# Altium integrated library Linear Technology Power Management LDO Linear Regulators.IntLib: 2339 symbols (part 69 of 131)
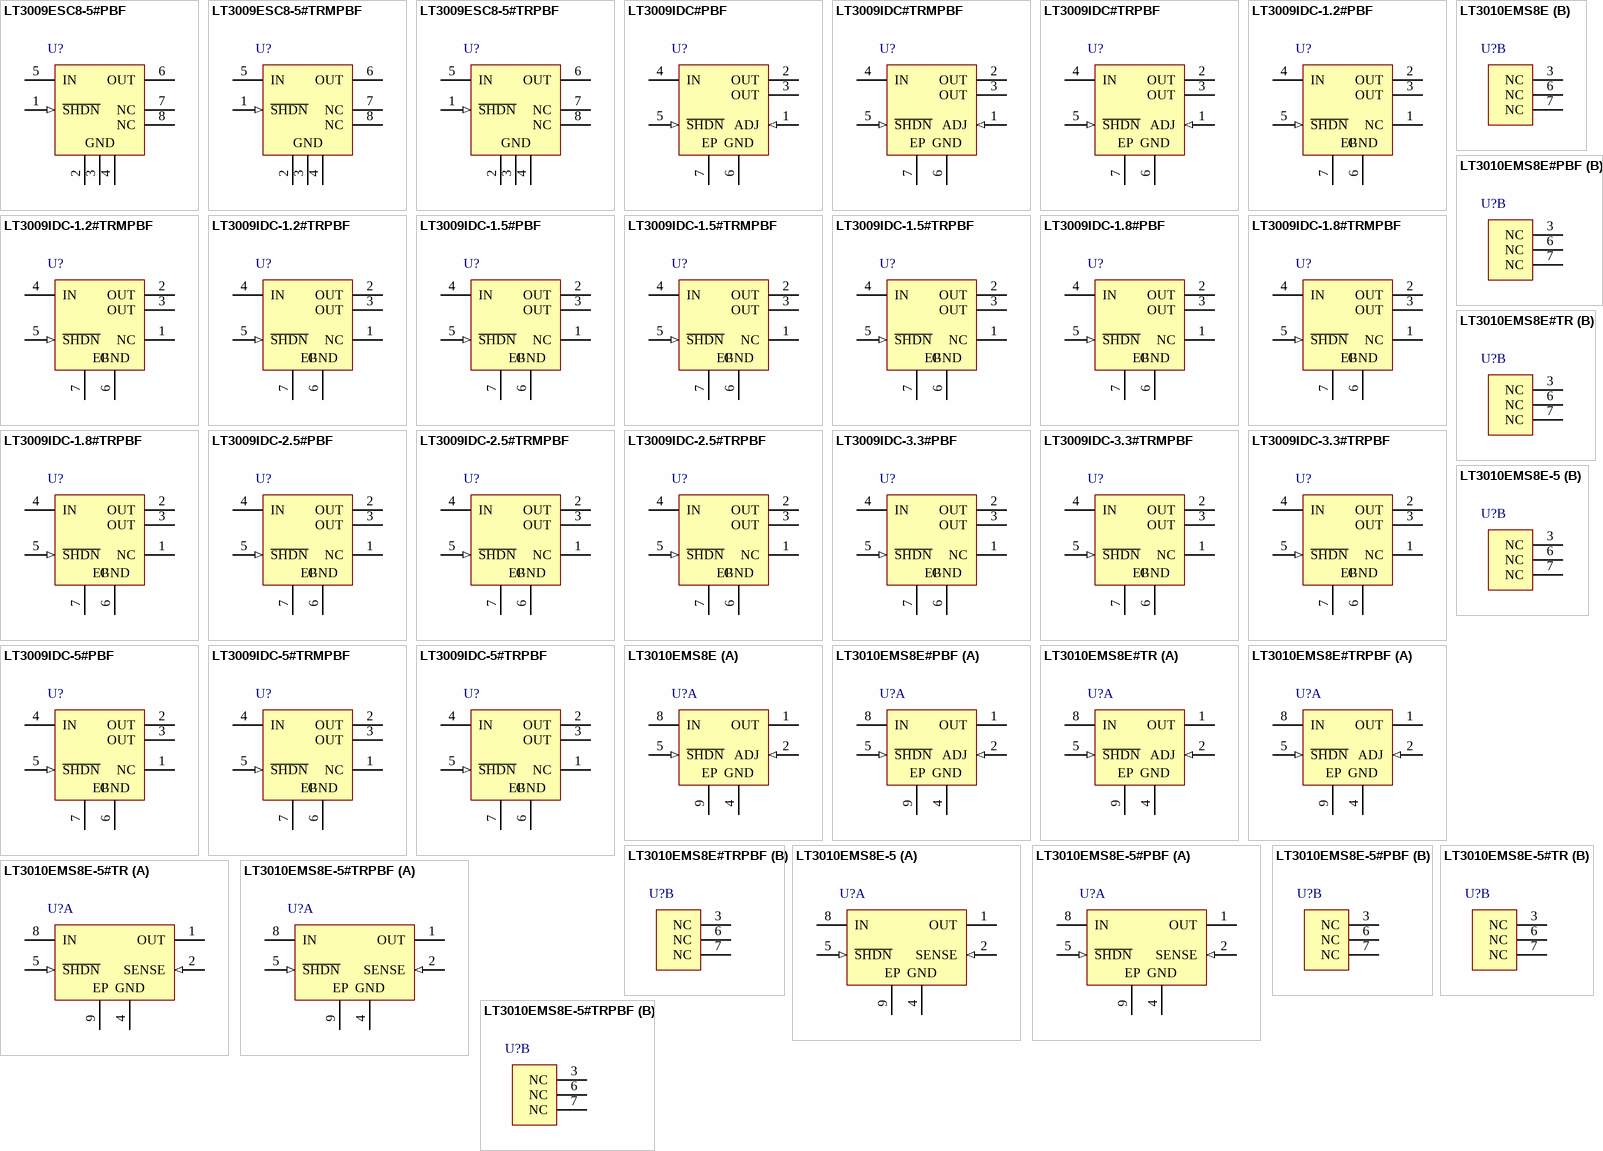
[diagram p137: symbols LT3009ESC8-5#PBF to LT3010EMS8E-5#TRPBF]

## LT3009IDC-1.8#TRMPBF
designator U?
3 uA IQ, 20 mA Low Dropout Linear Regulator, 1.6 to 20 V Vin, 1.8 V Vout, 6-pin SON (DC6-6), -40 to 125 degC, Pb-Free, Mini Tape and Reel; Manufacturer: Linear Technology; PartNumber: LT3009IDC-1.8#TRMPBF; Discrete Pass Element: no; Dropout Voltage(V): 0.28; Iout(mA): 20; Isupply(mA): 0.003; Noise(uV): 150; Number of Outputs: 1; Output Voltage: 1.8 V; PSRR(dB): 66; Vin Min(V): 1.6; DatasheetVersion: Rev. D; PackageVersion: Rev. B, 06/2010; PackageReference: DC6-6; PackageDescription: 6-Pin Plastic DFN, Body 2 x 2 mm, Pitch 0.5 mm; Supplier 1: Digi-Key; Supplier Part Number 1: LT3009IDC-1.8#TRMPBF-ND; Packing: Mini Tape and Reel; RoHS: TRUE; Shutdown Current(uA): 1; Vin Max(V): 20; Mounting Technology: Surface Mount; Code_JEDEC: MO-229; ComponentLink1Description: Manufacturer URL; ComponentLink1URL: http://www.linear.com/; ComponentLink2Description: Datasheet; ComponentLink2URL: http://cds.linear.com/docs/en/datasheet/3009fd.pdf; ComponentLink3Description: Package Specification; ComponentLink3URL: http://cds.linear.com/docs/en/packaging/DFN_6_05-08-1703.pdf
footprint LT-DC6-6_V (SON, 6-Leads, Body 2x2mm, Pitch 0.5mm, Thermal Pad 1.42x0.61mm)
pins: 1 NC "No Connect. For the adjustable voltage version, Pin 8 is an NC pin in the SC70 package. For the fi xed voltage versions, Pin 7 and Pin 8 are NC pins in the SC70 package, and Pin 1 is an NC pin in the DFN package. NC pins are (See Datasheet)", 2 OUT (power) "Output. This pin supplies power to the load. Use a minimum output capacitor of 1uF to prevent oscillations. Large load transient applications require larger output capacitors to limit peak voltage transients. See the (See Datasheet)", 3 OUT (power) "Output. This pin supplies power to the load. Use a minimum output capacitor of 1uF to prevent oscillations. Large load transient applications require larger output capacitors to limit peak voltage transients. See the (See Datasheet)", 4 IN (power) "Input. The IN pin supplies power to the device. The LT3009 requires a bypass capacitor at IN if the device is more than six inches away from the main input fi lter capacitor. In general, the output impedance of a battery (See Datasheet)", 5 ~{SHDN} (in) "Shutdown. Pulling the S\H\D\N\ pin low puts the LT3009 into a low power state and turns the output off. If unused, tie the S\H\D\N\ pin to VIN. The LT3009 does not function if the S\H\D\N\ pin is not connected. The S\H\D\N\ (See Datasheet)", 6 GND (power) "Ground. Connect the bottom of the resistor divider that sets output voltage directly to GND for the best regulation.", 7 EP (power) "Ground. The Exposed Pad (backside) of the DFN package is an electrical connection to GND. To ensure optimum performance, solder Pin 7 to the PCB and tie directly to Pin 6."

## LT3009IDC-1.8#TRPBF
designator U?
3 uA IQ, 20 mA Low Dropout Linear Regulator, 1.6 to 20 V Vin, 1.8 V Vout, 6-pin SON (DC6-6), -40 to 125 degC, Pb-Free, Tape and Reel; Manufacturer: Linear Technology; PartNumber: LT3009IDC-1.8#TRPBF; Discrete Pass Element: no; Dropout Voltage(V): 0.28; Iout(mA): 20; Isupply(mA): 0.003; Noise(uV): 150; Number of Outputs: 1; Output Voltage: 1.8 V; PSRR(dB): 66; Vin Min(V): 1.6; DatasheetVersion: Rev. D; PackageVersion: Rev. B, 06/2010; PackageReference: DC6-6; PackageDescription: 6-Pin Plastic DFN, Body 2 x 2 mm, Pitch 0.5 mm; Supplier 1: Digi-Key; Supplier Part Number 1: LT3009IDC-1.8#TRPBF-ND; Supplier 2: Newark; Supplier Part Number 2: 07P8398; Packing: Tape and Reel; RoHS: TRUE; Shutdown Current(uA): 1; Vin Max(V): 20; Mounting Technology: Surface Mount; Code_JEDEC: MO-229; ComponentLink1Description: Manufacturer URL; ComponentLink1URL: http://www.linear.com/; ComponentLink2Description: Datasheet; ComponentLink2URL: http://cds.linear.com/docs/en/datasheet/3009fd.pdf; ComponentLink3Description: Package Specification; ComponentLink3URL: http://cds.linear.com/docs/en/packaging/DFN_6_05-08-1703.pdf
footprint LT-DC6-6_V (SON, 6-Leads, Body 2x2mm, Pitch 0.5mm, Thermal Pad 1.42x0.61mm)
pins: 1 NC "No Connect. For the adjustable voltage version, Pin 8 is an NC pin in the SC70 package. For the fi xed voltage versions, Pin 7 and Pin 8 are NC pins in the SC70 package, and Pin 1 is an NC pin in the DFN package. NC pins are (See Datasheet)", 2 OUT (power) "Output. This pin supplies power to the load. Use a minimum output capacitor of 1uF to prevent oscillations. Large load transient applications require larger output capacitors to limit peak voltage transients. See the (See Datasheet)", 3 OUT (power) "Output. This pin supplies power to the load. Use a minimum output capacitor of 1uF to prevent oscillations. Large load transient applications require larger output capacitors to limit peak voltage transients. See the (See Datasheet)", 4 IN (power) "Input. The IN pin supplies power to the device. The LT3009 requires a bypass capacitor at IN if the device is more than six inches away from the main input fi lter capacitor. In general, the output impedance of a battery (See Datasheet)", 5 ~{SHDN} (in) "Shutdown. Pulling the S\H\D\N\ pin low puts the LT3009 into a low power state and turns the output off. If unused, tie the S\H\D\N\ pin to VIN. The LT3009 does not function if the S\H\D\N\ pin is not connected. The S\H\D\N\ (See Datasheet)", 6 GND (power) "Ground. Connect the bottom of the resistor divider that sets output voltage directly to GND for the best regulation.", 7 EP (power) "Ground. The Exposed Pad (backside) of the DFN package is an electrical connection to GND. To ensure optimum performance, solder Pin 7 to the PCB and tie directly to Pin 6."

## LT3009IDC-2.5#PBF
designator U?
3 uA IQ, 20 mA Low Dropout Linear Regulator, 1.6 to 20 V Vin, 2.5 V Vout, 6-pin SON (DC6-6), -40 to 125 degC, Pb-Free; Manufacturer: Linear Technology; PartNumber: LT3009IDC-2.5#PBF; Discrete Pass Element: no; Dropout Voltage(V): 0.28; Iout(mA): 20; Isupply(mA): 0.003; Noise(uV): 150; Number of Outputs: 1; Output Voltage: 2.5 V; PSRR(dB): 63; Vin Min(V): 1.6; DatasheetVersion: Rev. D; PackageVersion: Rev. B, 06/2010; PackageReference: DC6-6; PackageDescription: 6-Pin Plastic DFN, Body 2 x 2 mm, Pitch 0.5 mm; Supplier 1: Newark; Supplier Part Number 1: 78T3824; RoHS: TRUE; Shutdown Current(uA): 1; Vin Max(V): 20; Mounting Technology: Surface Mount; Code_JEDEC: MO-229; ComponentLink1Description: Manufacturer URL; ComponentLink1URL: http://www.linear.com/; ComponentLink2Description: Datasheet; ComponentLink2URL: http://cds.linear.com/docs/en/datasheet/3009fd.pdf; ComponentLink3Description: Package Specification; ComponentLink3URL: http://cds.linear.com/docs/en/packaging/DFN_6_05-08-1703.pdf
footprint LT-DC6-6_V (SON, 6-Leads, Body 2x2mm, Pitch 0.5mm, Thermal Pad 1.42x0.61mm)
pins: 1 NC "No Connect. For the adjustable voltage version, Pin 8 is an NC pin in the SC70 package. For the fi xed voltage versions, Pin 7 and Pin 8 are NC pins in the SC70 package, and Pin 1 is an NC pin in the DFN package. NC pins are (See Datasheet)", 2 OUT (power) "Output. This pin supplies power to the load. Use a minimum output capacitor of 1uF to prevent oscillations. Large load transient applications require larger output capacitors to limit peak voltage transients. See the (See Datasheet)", 3 OUT (power) "Output. This pin supplies power to the load. Use a minimum output capacitor of 1uF to prevent oscillations. Large load transient applications require larger output capacitors to limit peak voltage transients. See the (See Datasheet)", 4 IN (power) "Input. The IN pin supplies power to the device. The LT3009 requires a bypass capacitor at IN if the device is more than six inches away from the main input fi lter capacitor. In general, the output impedance of a battery (See Datasheet)", 5 ~{SHDN} (in) "Shutdown. Pulling the S\H\D\N\ pin low puts the LT3009 into a low power state and turns the output off. If unused, tie the S\H\D\N\ pin to VIN. The LT3009 does not function if the S\H\D\N\ pin is not connected. The S\H\D\N\ (See Datasheet)", 6 GND (power) "Ground. Connect the bottom of the resistor divider that sets output voltage directly to GND for the best regulation.", 7 EP (power) "Ground. The Exposed Pad (backside) of the DFN package is an electrical connection to GND. To ensure optimum performance, solder Pin 7 to the PCB and tie directly to Pin 6."

## LT3009IDC-2.5#TRMPBF
designator U?
3 uA IQ, 20 mA Low Dropout Linear Regulator, 1.6 to 20 V Vin, 2.5 V Vout, 6-pin SON (DC6-6), -40 to 125 degC, Pb-Free, Mini Tape and Reel; Manufacturer: Linear Technology; PartNumber: LT3009IDC-2.5#TRMPBF; Discrete Pass Element: no; Dropout Voltage(V): 0.28; Iout(mA): 20; Isupply(mA): 0.003; Noise(uV): 150; Number of Outputs: 1; Output Voltage: 2.5 V; PSRR(dB): 63; Vin Min(V): 1.6; DatasheetVersion: Rev. D; PackageVersion: Rev. B, 06/2010; PackageReference: DC6-6; PackageDescription: 6-Pin Plastic DFN, Body 2 x 2 mm, Pitch 0.5 mm; Supplier 1: Digi-Key; Supplier Part Number 1: LT3009IDC-2.5#TRMPBF-ND; Packing: Mini Tape and Reel; RoHS: TRUE; Shutdown Current(uA): 1; Vin Max(V): 20; Mounting Technology: Surface Mount; Code_JEDEC: MO-229; ComponentLink1Description: Manufacturer URL; ComponentLink1URL: http://www.linear.com/; ComponentLink2Description: Datasheet; ComponentLink2URL: http://cds.linear.com/docs/en/datasheet/3009fd.pdf; ComponentLink3Description: Package Specification; ComponentLink3URL: http://cds.linear.com/docs/en/packaging/DFN_6_05-08-1703.pdf
footprint LT-DC6-6_V (SON, 6-Leads, Body 2x2mm, Pitch 0.5mm, Thermal Pad 1.42x0.61mm)
pins: 1 NC "No Connect. For the adjustable voltage version, Pin 8 is an NC pin in the SC70 package. For the fi xed voltage versions, Pin 7 and Pin 8 are NC pins in the SC70 package, and Pin 1 is an NC pin in the DFN package. NC pins are (See Datasheet)", 2 OUT (power) "Output. This pin supplies power to the load. Use a minimum output capacitor of 1uF to prevent oscillations. Large load transient applications require larger output capacitors to limit peak voltage transients. See the (See Datasheet)", 3 OUT (power) "Output. This pin supplies power to the load. Use a minimum output capacitor of 1uF to prevent oscillations. Large load transient applications require larger output capacitors to limit peak voltage transients. See the (See Datasheet)", 4 IN (power) "Input. The IN pin supplies power to the device. The LT3009 requires a bypass capacitor at IN if the device is more than six inches away from the main input fi lter capacitor. In general, the output impedance of a battery (See Datasheet)", 5 ~{SHDN} (in) "Shutdown. Pulling the S\H\D\N\ pin low puts the LT3009 into a low power state and turns the output off. If unused, tie the S\H\D\N\ pin to VIN. The LT3009 does not function if the S\H\D\N\ pin is not connected. The S\H\D\N\ (See Datasheet)", 6 GND (power) "Ground. Connect the bottom of the resistor divider that sets output voltage directly to GND for the best regulation.", 7 EP (power) "Ground. The Exposed Pad (backside) of the DFN package is an electrical connection to GND. To ensure optimum performance, solder Pin 7 to the PCB and tie directly to Pin 6."

## LT3009IDC-2.5#TRPBF
designator U?
3 uA IQ, 20 mA Low Dropout Linear Regulator, 1.6 to 20 V Vin, 2.5 V Vout, 6-pin SON (DC6-6), -40 to 125 degC, Pb-Free, Tape and Reel; Manufacturer: Linear Technology; PartNumber: LT3009IDC-2.5#TRPBF; Discrete Pass Element: no; Dropout Voltage(V): 0.28; Iout(mA): 20; Isupply(mA): 0.003; Noise(uV): 150; Number of Outputs: 1; Output Voltage: 2.5 V; PSRR(dB): 63; Vin Min(V): 1.6; DatasheetVersion: Rev. D; PackageVersion: Rev. B, 06/2010; PackageReference: DC6-6; PackageDescription: 6-Pin Plastic DFN, Body 2 x 2 mm, Pitch 0.5 mm; Supplier 1: Digi-Key; Supplier Part Number 1: LT3009IDC-2.5#TRPBF-ND; Packing: Tape and Reel; RoHS: TRUE; Shutdown Current(uA): 1; Vin Max(V): 20; Mounting Technology: Surface Mount; Code_JEDEC: MO-229; ComponentLink1Description: Manufacturer URL; ComponentLink1URL: http://www.linear.com/; ComponentLink2Description: Datasheet; ComponentLink2URL: http://cds.linear.com/docs/en/datasheet/3009fd.pdf; ComponentLink3Description: Package Specification; ComponentLink3URL: http://cds.linear.com/docs/en/packaging/DFN_6_05-08-1703.pdf
footprint LT-DC6-6_V (SON, 6-Leads, Body 2x2mm, Pitch 0.5mm, Thermal Pad 1.42x0.61mm)
pins: 1 NC "No Connect. For the adjustable voltage version, Pin 8 is an NC pin in the SC70 package. For the fi xed voltage versions, Pin 7 and Pin 8 are NC pins in the SC70 package, and Pin 1 is an NC pin in the DFN package. NC pins are (See Datasheet)", 2 OUT (power) "Output. This pin supplies power to the load. Use a minimum output capacitor of 1uF to prevent oscillations. Large load transient applications require larger output capacitors to limit peak voltage transients. See the (See Datasheet)", 3 OUT (power) "Output. This pin supplies power to the load. Use a minimum output capacitor of 1uF to prevent oscillations. Large load transient applications require larger output capacitors to limit peak voltage transients. See the (See Datasheet)", 4 IN (power) "Input. The IN pin supplies power to the device. The LT3009 requires a bypass capacitor at IN if the device is more than six inches away from the main input fi lter capacitor. In general, the output impedance of a battery (See Datasheet)", 5 ~{SHDN} (in) "Shutdown. Pulling the S\H\D\N\ pin low puts the LT3009 into a low power state and turns the output off. If unused, tie the S\H\D\N\ pin to VIN. The LT3009 does not function if the S\H\D\N\ pin is not connected. The S\H\D\N\ (See Datasheet)", 6 GND (power) "Ground. Connect the bottom of the resistor divider that sets output voltage directly to GND for the best regulation.", 7 EP (power) "Ground. The Exposed Pad (backside) of the DFN package is an electrical connection to GND. To ensure optimum performance, solder Pin 7 to the PCB and tie directly to Pin 6."

## LT3009IDC-3.3#PBF
designator U?
3 uA IQ, 20 mA Low Dropout Linear Regulator, 1.6 to 20 V Vin, 3.3 V Vout, 6-pin SON (DC6-6), -40 to 125 degC, Pb-Free; Manufacturer: Linear Technology; PartNumber: LT3009IDC-3.3#PBF; Discrete Pass Element: no; Dropout Voltage(V): 0.28; Iout(mA): 20; Isupply(mA): 0.003; Noise(uV): 150; Number of Outputs: 1; Output Voltage: 3.3 V; PSRR(dB): 61; Vin Min(V): 1.6; DatasheetVersion: Rev. D; PackageVersion: Rev. B, 06/2010; PackageReference: DC6-6; PackageDescription: 6-Pin Plastic DFN, Body 2 x 2 mm, Pitch 0.5 mm; Supplier 1: Newark; Supplier Part Number 1: 78T3825; RoHS: TRUE; Shutdown Current(uA): 1; Vin Max(V): 20; Mounting Technology: Surface Mount; Code_JEDEC: MO-229; ComponentLink1Description: Manufacturer URL; ComponentLink1URL: http://www.linear.com/; ComponentLink2Description: Datasheet; ComponentLink2URL: http://cds.linear.com/docs/en/datasheet/3009fd.pdf; ComponentLink3Description: Package Specification; ComponentLink3URL: http://cds.linear.com/docs/en/packaging/DFN_6_05-08-1703.pdf
footprint LT-DC6-6_V (SON, 6-Leads, Body 2x2mm, Pitch 0.5mm, Thermal Pad 1.42x0.61mm)
pins: 1 NC "No Connect. For the adjustable voltage version, Pin 8 is an NC pin in the SC70 package. For the fi xed voltage versions, Pin 7 and Pin 8 are NC pins in the SC70 package, and Pin 1 is an NC pin in the DFN package. NC pins are (See Datasheet)", 2 OUT (power) "Output. This pin supplies power to the load. Use a minimum output capacitor of 1uF to prevent oscillations. Large load transient applications require larger output capacitors to limit peak voltage transients. See the (See Datasheet)", 3 OUT (power) "Output. This pin supplies power to the load. Use a minimum output capacitor of 1uF to prevent oscillations. Large load transient applications require larger output capacitors to limit peak voltage transients. See the (See Datasheet)", 4 IN (power) "Input. The IN pin supplies power to the device. The LT3009 requires a bypass capacitor at IN if the device is more than six inches away from the main input fi lter capacitor. In general, the output impedance of a battery (See Datasheet)", 5 ~{SHDN} (in) "Shutdown. Pulling the S\H\D\N\ pin low puts the LT3009 into a low power state and turns the output off. If unused, tie the S\H\D\N\ pin to VIN. The LT3009 does not function if the S\H\D\N\ pin is not connected. The S\H\D\N\ (See Datasheet)", 6 GND (power) "Ground. Connect the bottom of the resistor divider that sets output voltage directly to GND for the best regulation.", 7 EP (power) "Ground. The Exposed Pad (backside) of the DFN package is an electrical connection to GND. To ensure optimum performance, solder Pin 7 to the PCB and tie directly to Pin 6."

## LT3009IDC-3.3#TRMPBF
designator U?
3 uA IQ, 20 mA Low Dropout Linear Regulator, 1.6 to 20 V Vin, 3.3 V Vout, 6-pin SON (DC6-6), -40 to 125 degC, Pb-Free, Mini Tape and Reel; Manufacturer: Linear Technology; PartNumber: LT3009IDC-3.3#TRMPBF; Discrete Pass Element: no; Dropout Voltage(V): 0.28; Iout(mA): 20; Isupply(mA): 0.003; Noise(uV): 150; Number of Outputs: 1; Output Voltage: 3.3 V; PSRR(dB): 61; Vin Min(V): 1.6; DatasheetVersion: Rev. D; PackageVersion: Rev. B, 06/2010; PackageReference: DC6-6; PackageDescription: 6-Pin Plastic DFN, Body 2 x 2 mm, Pitch 0.5 mm; Supplier 1: Digi-Key; Supplier Part Number 1: LT3009IDC-3.3#TRMPBF-ND; Packing: Mini Tape and Reel; RoHS: TRUE; Shutdown Current(uA): 1; Vin Max(V): 20; Mounting Technology: Surface Mount; Code_JEDEC: MO-229; ComponentLink1Description: Manufacturer URL; ComponentLink1URL: http://www.linear.com/; ComponentLink2Description: Datasheet; ComponentLink2URL: http://cds.linear.com/docs/en/datasheet/3009fd.pdf; ComponentLink3Description: Package Specification; ComponentLink3URL: http://cds.linear.com/docs/en/packaging/DFN_6_05-08-1703.pdf
footprint LT-DC6-6_V (SON, 6-Leads, Body 2x2mm, Pitch 0.5mm, Thermal Pad 1.42x0.61mm)
pins: 1 NC "No Connect. For the adjustable voltage version, Pin 8 is an NC pin in the SC70 package. For the fi xed voltage versions, Pin 7 and Pin 8 are NC pins in the SC70 package, and Pin 1 is an NC pin in the DFN package. NC pins are (See Datasheet)", 2 OUT (power) "Output. This pin supplies power to the load. Use a minimum output capacitor of 1uF to prevent oscillations. Large load transient applications require larger output capacitors to limit peak voltage transients. See the (See Datasheet)", 3 OUT (power) "Output. This pin supplies power to the load. Use a minimum output capacitor of 1uF to prevent oscillations. Large load transient applications require larger output capacitors to limit peak voltage transients. See the (See Datasheet)", 4 IN (power) "Input. The IN pin supplies power to the device. The LT3009 requires a bypass capacitor at IN if the device is more than six inches away from the main input fi lter capacitor. In general, the output impedance of a battery (See Datasheet)", 5 ~{SHDN} (in) "Shutdown. Pulling the S\H\D\N\ pin low puts the LT3009 into a low power state and turns the output off. If unused, tie the S\H\D\N\ pin to VIN. The LT3009 does not function if the S\H\D\N\ pin is not connected. The S\H\D\N\ (See Datasheet)", 6 GND (power) "Ground. Connect the bottom of the resistor divider that sets output voltage directly to GND for the best regulation.", 7 EP (power) "Ground. The Exposed Pad (backside) of the DFN package is an electrical connection to GND. To ensure optimum performance, solder Pin 7 to the PCB and tie directly to Pin 6."

## LT3009IDC-3.3#TRPBF
designator U?
3 uA IQ, 20 mA Low Dropout Linear Regulator, 1.6 to 20 V Vin, 3.3 V Vout, 6-pin SON (DC6-6), -40 to 125 degC, Pb-Free, Tape and Reel; Manufacturer: Linear Technology; PartNumber: LT3009IDC-3.3#TRPBF; Discrete Pass Element: no; Dropout Voltage(V): 0.28; Iout(mA): 20; Isupply(mA): 0.003; Noise(uV): 150; Number of Outputs: 1; Output Voltage: 3.3 V; PSRR(dB): 61; Vin Min(V): 1.6; DatasheetVersion: Rev. D; PackageVersion: Rev. B, 06/2010; PackageReference: DC6-6; PackageDescription: 6-Pin Plastic DFN, Body 2 x 2 mm, Pitch 0.5 mm; Supplier 1: Digi-Key; Supplier Part Number 1: LT3009IDC-3.3#TRPBF-ND; Packing: Tape and Reel; RoHS: TRUE; Shutdown Current(uA): 1; Vin Max(V): 20; Mounting Technology: Surface Mount; Code_JEDEC: MO-229; ComponentLink1Description: Manufacturer URL; ComponentLink1URL: http://www.linear.com/; ComponentLink2Description: Datasheet; ComponentLink2URL: http://cds.linear.com/docs/en/datasheet/3009fd.pdf; ComponentLink3Description: Package Specification; ComponentLink3URL: http://cds.linear.com/docs/en/packaging/DFN_6_05-08-1703.pdf
footprint LT-DC6-6_V (SON, 6-Leads, Body 2x2mm, Pitch 0.5mm, Thermal Pad 1.42x0.61mm)
pins: 1 NC "No Connect. For the adjustable voltage version, Pin 8 is an NC pin in the SC70 package. For the fi xed voltage versions, Pin 7 and Pin 8 are NC pins in the SC70 package, and Pin 1 is an NC pin in the DFN package. NC pins are (See Datasheet)", 2 OUT (power) "Output. This pin supplies power to the load. Use a minimum output capacitor of 1uF to prevent oscillations. Large load transient applications require larger output capacitors to limit peak voltage transients. See the (See Datasheet)", 3 OUT (power) "Output. This pin supplies power to the load. Use a minimum output capacitor of 1uF to prevent oscillations. Large load transient applications require larger output capacitors to limit peak voltage transients. See the (See Datasheet)", 4 IN (power) "Input. The IN pin supplies power to the device. The LT3009 requires a bypass capacitor at IN if the device is more than six inches away from the main input fi lter capacitor. In general, the output impedance of a battery (See Datasheet)", 5 ~{SHDN} (in) "Shutdown. Pulling the S\H\D\N\ pin low puts the LT3009 into a low power state and turns the output off. If unused, tie the S\H\D\N\ pin to VIN. The LT3009 does not function if the S\H\D\N\ pin is not connected. The S\H\D\N\ (See Datasheet)", 6 GND (power) "Ground. Connect the bottom of the resistor divider that sets output voltage directly to GND for the best regulation.", 7 EP (power) "Ground. The Exposed Pad (backside) of the DFN package is an electrical connection to GND. To ensure optimum performance, solder Pin 7 to the PCB and tie directly to Pin 6."

## LT3009IDC-5#PBF
designator U?
3 uA IQ, 20 mA Low Dropout Linear Regulator, 1.6 to 20 V Vin, 5 V Vout, 6-pin SON (DC6-6), -40 to 125 degC, Pb-Free; Manufacturer: Linear Technology; PartNumber: LT3009IDC-5#PBF; Discrete Pass Element: no; Dropout Voltage(V): 0.28; Iout(mA): 20; Isupply(mA): 0.003; Noise(uV): 150; Number of Outputs: 1; Output Voltage: 5 V; PSRR(dB): 56; Vin Min(V): 1.6; DatasheetVersion: Rev. D; PackageVersion: Rev. B, 06/2010; PackageReference: DC6-6; PackageDescription: 6-Pin Plastic DFN, Body 2 x 2 mm, Pitch 0.5 mm; RoHS: TRUE; Shutdown Current(uA): 1; Vin Max(V): 20; Mounting Technology: Surface Mount; Code_JEDEC: MO-229; ComponentLink1Description: Manufacturer URL; ComponentLink1URL: http://www.linear.com/; ComponentLink2Description: Datasheet; ComponentLink2URL: http://cds.linear.com/docs/en/datasheet/3009fd.pdf; ComponentLink3Description: Package Specification; ComponentLink3URL: http://cds.linear.com/docs/en/packaging/DFN_6_05-08-1703.pdf
footprint LT-DC6-6_V (SON, 6-Leads, Body 2x2mm, Pitch 0.5mm, Thermal Pad 1.42x0.61mm)
pins: 1 NC "No Connect. For the adjustable voltage version, Pin 8 is an NC pin in the SC70 package. For the fi xed voltage versions, Pin 7 and Pin 8 are NC pins in the SC70 package, and Pin 1 is an NC pin in the DFN package. NC pins are (See Datasheet)", 2 OUT (power) "Output. This pin supplies power to the load. Use a minimum output capacitor of 1uF to prevent oscillations. Large load transient applications require larger output capacitors to limit peak voltage transients. See the (See Datasheet)", 3 OUT (power) "Output. This pin supplies power to the load. Use a minimum output capacitor of 1uF to prevent oscillations. Large load transient applications require larger output capacitors to limit peak voltage transients. See the (See Datasheet)", 4 IN (power) "Input. The IN pin supplies power to the device. The LT3009 requires a bypass capacitor at IN if the device is more than six inches away from the main input fi lter capacitor. In general, the output impedance of a battery (See Datasheet)", 5 ~{SHDN} (in) "Shutdown. Pulling the S\H\D\N\ pin low puts the LT3009 into a low power state and turns the output off. If unused, tie the S\H\D\N\ pin to VIN. The LT3009 does not function if the S\H\D\N\ pin is not connected. The S\H\D\N\ (See Datasheet)", 6 GND (power) "Ground. Connect the bottom of the resistor divider that sets output voltage directly to GND for the best regulation.", 7 EP (power) "Ground. The Exposed Pad (backside) of the DFN package is an electrical connection to GND. To ensure optimum performance, solder Pin 7 to the PCB and tie directly to Pin 6."

## LT3009IDC-5#TRMPBF
designator U?
3 uA IQ, 20 mA Low Dropout Linear Regulator, 1.6 to 20 V Vin, 5 V Vout, 6-pin SON (DC6-6), -40 to 125 degC, Pb-Free, Mini Tape and Reel; Manufacturer: Linear Technology; PartNumber: LT3009IDC-5#TRMPBF; Discrete Pass Element: no; Dropout Voltage(V): 0.28; Iout(mA): 20; Isupply(mA): 0.003; Noise(uV): 150; Number of Outputs: 1; Output Voltage: 5 V; PSRR(dB): 56; Vin Min(V): 1.6; DatasheetVersion: Rev. D; PackageVersion: Rev. B, 06/2010; PackageReference: DC6-6; PackageDescription: 6-Pin Plastic DFN, Body 2 x 2 mm, Pitch 0.5 mm; Supplier 1: Digi-Key; Supplier Part Number 1: LT3009IDC-5#TRMPBF-ND; Packing: Mini Tape and Reel; RoHS: TRUE; Shutdown Current(uA): 1; Vin Max(V): 20; Mounting Technology: Surface Mount; Code_JEDEC: MO-229; ComponentLink1Description: Manufacturer URL; ComponentLink1URL: http://www.linear.com/; ComponentLink2Description: Datasheet; ComponentLink2URL: http://cds.linear.com/docs/en/datasheet/3009fd.pdf; ComponentLink3Description: Package Specification; ComponentLink3URL: http://cds.linear.com/docs/en/packaging/DFN_6_05-08-1703.pdf
footprint LT-DC6-6_V (SON, 6-Leads, Body 2x2mm, Pitch 0.5mm, Thermal Pad 1.42x0.61mm)
pins: 1 NC "No Connect. For the adjustable voltage version, Pin 8 is an NC pin in the SC70 package. For the fi xed voltage versions, Pin 7 and Pin 8 are NC pins in the SC70 package, and Pin 1 is an NC pin in the DFN package. NC pins are (See Datasheet)", 2 OUT (power) "Output. This pin supplies power to the load. Use a minimum output capacitor of 1uF to prevent oscillations. Large load transient applications require larger output capacitors to limit peak voltage transients. See the (See Datasheet)", 3 OUT (power) "Output. This pin supplies power to the load. Use a minimum output capacitor of 1uF to prevent oscillations. Large load transient applications require larger output capacitors to limit peak voltage transients. See the (See Datasheet)", 4 IN (power) "Input. The IN pin supplies power to the device. The LT3009 requires a bypass capacitor at IN if the device is more than six inches away from the main input fi lter capacitor. In general, the output impedance of a battery (See Datasheet)", 5 ~{SHDN} (in) "Shutdown. Pulling the S\H\D\N\ pin low puts the LT3009 into a low power state and turns the output off. If unused, tie the S\H\D\N\ pin to VIN. The LT3009 does not function if the S\H\D\N\ pin is not connected. The S\H\D\N\ (See Datasheet)", 6 GND (power) "Ground. Connect the bottom of the resistor divider that sets output voltage directly to GND for the best regulation.", 7 EP (power) "Ground. The Exposed Pad (backside) of the DFN package is an electrical connection to GND. To ensure optimum performance, solder Pin 7 to the PCB and tie directly to Pin 6."

## LT3009IDC-5#TRPBF
designator U?
3 uA IQ, 20 mA Low Dropout Linear Regulator, 1.6 to 20 V Vin, 5 V Vout, 6-pin SON (DC6-6), -40 to 125 degC, Pb-Free, Tape and Reel; Manufacturer: Linear Technology; PartNumber: LT3009IDC-5#TRPBF; Discrete Pass Element: no; Dropout Voltage(V): 0.28; Iout(mA): 20; Isupply(mA): 0.003; Noise(uV): 150; Number of Outputs: 1; Output Voltage: 5 V; PSRR(dB): 56; Vin Min(V): 1.6; DatasheetVersion: Rev. D; PackageVersion: Rev. B, 06/2010; PackageReference: DC6-6; PackageDescription: 6-Pin Plastic DFN, Body 2 x 2 mm, Pitch 0.5 mm; Supplier 1: Digi-Key; Supplier Part Number 1: LT3009IDC-5#TRPBF-ND; Packing: Tape and Reel; RoHS: TRUE; Shutdown Current(uA): 1; Vin Max(V): 20; Mounting Technology: Surface Mount; Code_JEDEC: MO-229; ComponentLink1Description: Manufacturer URL; ComponentLink1URL: http://www.linear.com/; ComponentLink2Description: Datasheet; ComponentLink2URL: http://cds.linear.com/docs/en/datasheet/3009fd.pdf; ComponentLink3Description: Package Specification; ComponentLink3URL: http://cds.linear.com/docs/en/packaging/DFN_6_05-08-1703.pdf
footprint LT-DC6-6_V (SON, 6-Leads, Body 2x2mm, Pitch 0.5mm, Thermal Pad 1.42x0.61mm)
pins: 1 NC "No Connect. For the adjustable voltage version, Pin 8 is an NC pin in the SC70 package. For the fi xed voltage versions, Pin 7 and Pin 8 are NC pins in the SC70 package, and Pin 1 is an NC pin in the DFN package. NC pins are (See Datasheet)", 2 OUT (power) "Output. This pin supplies power to the load. Use a minimum output capacitor of 1uF to prevent oscillations. Large load transient applications require larger output capacitors to limit peak voltage transients. See the (See Datasheet)", 3 OUT (power) "Output. This pin supplies power to the load. Use a minimum output capacitor of 1uF to prevent oscillations. Large load transient applications require larger output capacitors to limit peak voltage transients. See the (See Datasheet)", 4 IN (power) "Input. The IN pin supplies power to the device. The LT3009 requires a bypass capacitor at IN if the device is more than six inches away from the main input fi lter capacitor. In general, the output impedance of a battery (See Datasheet)", 5 ~{SHDN} (in) "Shutdown. Pulling the S\H\D\N\ pin low puts the LT3009 into a low power state and turns the output off. If unused, tie the S\H\D\N\ pin to VIN. The LT3009 does not function if the S\H\D\N\ pin is not connected. The S\H\D\N\ (See Datasheet)", 6 GND (power) "Ground. Connect the bottom of the resistor divider that sets output voltage directly to GND for the best regulation.", 7 EP (power) "Ground. The Exposed Pad (backside) of the DFN package is an electrical connection to GND. To ensure optimum performance, solder Pin 7 to the PCB and tie directly to Pin 6."

## LT3010EMS8E
designator U?
50 mA, Low Dropout Micropower Linear Regulator, 3 to 80 V Vin, Adjustable Vout, 8-pin SOP (MS8E-8), -40 to 125 degC; Manufacturer: Linear Technology; PartNumber: LT3010EMS8E; Discrete Pass Element: no; Dropout Voltage(V): 0.3; Iout(mA): 50; Isupply(mA): 0.03; Noise(uV): 100; Number of Outputs: 1; Output Voltage: Adj; PSRR(dB): 75; Vin Max(V): 80; Vin Min(V): 3; Vout Max(V): 60; Vout Min(V): 1.275; DatasheetVersion: Rev. E; PackageVersion: Rev. F; PackageReference: MS8E-8; PackageDescription: 8-Pin Plastic MSOP, Exposed Die Pad, Body 3 x 3 mm, Pitch 0.65 mm; Supplier 1: Newark; Supplier Part Number 1: 57M7838; RoHS: FALSE; Shutdown Current(uA): 1; Mounting Technology: Surface Mount; ComponentLink1Description: Manufacturer URL; ComponentLink1URL: http://www.linear.com/; ComponentLink2Description: Datasheet; ComponentLink2URL: http://cds.linear.com/docs/en/datasheet/30105fe.pdf; ComponentLink3Description: Package Specification; ComponentLink3URL: http://cds.linear.com/docs/en/datasheet/3080fc.pdf
footprint LT-MS8E-8-1880X1680TP_N (SOP, 8-Leads, Body 3x3mm, Pitch 0.65mm, Thermal Pad 1.88x1.68mm, IPC Medium Density)
footprint LT-MS8E-8-1880X1680TP_L (SOP, 8-Leads, Body 3x3mm, Pitch 0.65mm, Thermal Pad 1.88x1.68mm, IPC High Density)
footprint LT-MS8E-8-1880X1680TP_M (SOP, 8-Leads, Body 3x3mm, Pitch 0.65mm, Thermal Pad 1.88x1.68mm, IPC Low Density)
part A pins: 1 OUT (power) "Output. The output supplies power to the load.", 2 ADJ (in) "Adjust. This is the input to the error amplifier.", 4 GND (power) "Ground.", 5 ~{SHDN} (in) "Shutdown. The output will be off when the S\H\D\N\ pin is pulled low. The S\H\D\N\ pin can be driven either by 5V logic or open-collector logic with a pull-up resistor.", 8 IN (power) "Input. Power is supplied to the device through the IN pin. A bypass capacitor is required on this pin if the device is more than six inches away from the main input filter capacitor. In general, the output impedance of a (See Datasheet)", 9 EP (power) "Ground."
part B pins: 3 NC, 6 NC, 7 NC

## LT3010EMS8E#PBF
designator U?
50 mA, Low Dropout Micropower Linear Regulator, 3 to 80 V Vin, Adjustable Vout, 8-pin SOP (MS8E-8), -40 to 125 degC, Pb-Free; Manufacturer: Linear Technology; PartNumber: LT3010EMS8E#PBF; Discrete Pass Element: no; Dropout Voltage(V): 0.3; Iout(mA): 50; Isupply(mA): 0.03; Noise(uV): 100; Number of Outputs: 1; Output Voltage: Adj; PSRR(dB): 75; Vin Max(V): 80; Vin Min(V): 3; Vout Max(V): 60; Vout Min(V): 1.275; DatasheetVersion: Rev. E; PackageVersion: Rev. F; PackageReference: MS8E-8; PackageDescription: 8-Pin Plastic MSOP, Exposed Die Pad, Body 3 x 3 mm, Pitch 0.65 mm; Supplier 1: Digi-Key; Supplier Part Number 1: LT3010EMS8E#PBF-ND; Supplier 2: Farnell; Supplier Part Number 2: 1273635; Supplier 3: Newark; Supplier Part Number 3: 57M7843; RoHS: TRUE; Shutdown Current(uA): 1; Mounting Technology: Surface Mount; ComponentLink1Description: Manufacturer URL; ComponentLink1URL: http://www.linear.com/; ComponentLink2Description: Datasheet; ComponentLink2URL: http://cds.linear.com/docs/en/datasheet/30105fe.pdf; ComponentLink3Description: Package Specification; ComponentLink3URL: http://cds.linear.com/docs/en/datasheet/3080fc.pdf
footprint LT-MS8E-8-1880X1680TP_N (SOP, 8-Leads, Body 3x3mm, Pitch 0.65mm, Thermal Pad 1.88x1.68mm, IPC Medium Density)
footprint LT-MS8E-8-1880X1680TP_L (SOP, 8-Leads, Body 3x3mm, Pitch 0.65mm, Thermal Pad 1.88x1.68mm, IPC High Density)
footprint LT-MS8E-8-1880X1680TP_M (SOP, 8-Leads, Body 3x3mm, Pitch 0.65mm, Thermal Pad 1.88x1.68mm, IPC Low Density)
part A pins: 1 OUT (power) "Output. The output supplies power to the load.", 2 ADJ (in) "Adjust. This is the input to the error amplifier.", 4 GND (power) "Ground.", 5 ~{SHDN} (in) "Shutdown. The output will be off when the S\H\D\N\ pin is pulled low. The S\H\D\N\ pin can be driven either by 5V logic or open-collector logic with a pull-up resistor.", 8 IN (power) "Input. Power is supplied to the device through the IN pin. A bypass capacitor is required on this pin if the device is more than six inches away from the main input filter capacitor. In general, the output impedance of a (See Datasheet)", 9 EP (power) "Ground."
part B pins: 3 NC, 6 NC, 7 NC

## LT3010EMS8E#TR
designator U?
50 mA, Low Dropout Micropower Linear Regulator, 3 to 80 V Vin, Adjustable Vout, 8-pin SOP (MS8E-8), -40 to 125 degC, Tape and Reel; Manufacturer: Linear Technology; PartNumber: LT3010EMS8E#TR; Discrete Pass Element: no; Dropout Voltage(V): 0.3; Iout(mA): 50; Isupply(mA): 0.03; Noise(uV): 100; Number of Outputs: 1; Output Voltage: Adj; PSRR(dB): 75; Vin Max(V): 80; Vin Min(V): 3; Vout Max(V): 60; Vout Min(V): 1.275; DatasheetVersion: Rev. E; PackageVersion: Rev. F; PackageReference: MS8E-8; PackageDescription: 8-Pin Plastic MSOP, Exposed Die Pad, Body 3 x 3 mm, Pitch 0.65 mm; Supplier 1: Digi-Key; Supplier Part Number 1: LT3010EMS8E#TR-ND; Supplier 2: Newark; Supplier Part Number 2: 57M7844; Packing: Tape and Reel; RoHS: FALSE; Shutdown Current(uA): 1; Mounting Technology: Surface Mount; ComponentLink1Description: Manufacturer URL; ComponentLink1URL: http://www.linear.com/; ComponentLink2Description: Datasheet; ComponentLink2URL: http://cds.linear.com/docs/en/datasheet/30105fe.pdf; ComponentLink3Description: Package Specification; ComponentLink3URL: http://cds.linear.com/docs/en/datasheet/3080fc.pdf
footprint LT-MS8E-8-1880X1680TP_N (SOP, 8-Leads, Body 3x3mm, Pitch 0.65mm, Thermal Pad 1.88x1.68mm, IPC Medium Density)
footprint LT-MS8E-8-1880X1680TP_L (SOP, 8-Leads, Body 3x3mm, Pitch 0.65mm, Thermal Pad 1.88x1.68mm, IPC High Density)
footprint LT-MS8E-8-1880X1680TP_M (SOP, 8-Leads, Body 3x3mm, Pitch 0.65mm, Thermal Pad 1.88x1.68mm, IPC Low Density)
part A pins: 1 OUT (power) "Output. The output supplies power to the load.", 2 ADJ (in) "Adjust. This is the input to the error amplifier.", 4 GND (power) "Ground.", 5 ~{SHDN} (in) "Shutdown. The output will be off when the S\H\D\N\ pin is pulled low. The S\H\D\N\ pin can be driven either by 5V logic or open-collector logic with a pull-up resistor.", 8 IN (power) "Input. Power is supplied to the device through the IN pin. A bypass capacitor is required on this pin if the device is more than six inches away from the main input filter capacitor. In general, the output impedance of a (See Datasheet)", 9 EP (power) "Ground."
part B pins: 3 NC, 6 NC, 7 NC

## LT3010EMS8E#TRPBF
designator U?
50 mA, Low Dropout Micropower Linear Regulator, 3 to 80 V Vin, Adjustable Vout, 8-pin SOP (MS8E-8), -40 to 125 degC, Pb-Free, Tape and Reel; Manufacturer: Linear Technology; PartNumber: LT3010EMS8E#TRPBF; Discrete Pass Element: no; Dropout Voltage(V): 0.3; Iout(mA): 50; Isupply(mA): 0.03; Noise(uV): 100; Number of Outputs: 1; Output Voltage: Adj; PSRR(dB): 75; Vin Max(V): 80; Vin Min(V): 3; Vout Max(V): 60; Vout Min(V): 1.275; DatasheetVersion: Rev. E; PackageVersion: Rev. F; PackageReference: MS8E-8; PackageDescription: 8-Pin Plastic MSOP, Exposed Die Pad, Body 3 x 3 mm, Pitch 0.65 mm; Supplier 1: Digi-Key; Supplier Part Number 1: LT3010EMS8E#TRPBFTR-ND; Supplier 2: Digi-Key; Supplier Part Number 2: LT3010EMS8E#TRPBFCT-ND; Supplier 3: Digi-Key; Supplier Part Number 3: LT3010EMS8E#TRPBFDKR-ND; Supplier 4: Newark; Supplier Part Number 4: 57M7845; Packing: Tape and Reel; RoHS: TRUE; Shutdown Current(uA): 1; Mounting Technology: Surface Mount; ComponentLink1Description: Manufacturer URL; ComponentLink1URL: http://www.linear.com/; ComponentLink2Description: Datasheet; ComponentLink2URL: http://cds.linear.com/docs/en/datasheet/30105fe.pdf; ComponentLink3Description: Package Specification; ComponentLink3URL: http://cds.linear.com/docs/en/datasheet/3080fc.pdf
footprint LT-MS8E-8-1880X1680TP_N (SOP, 8-Leads, Body 3x3mm, Pitch 0.65mm, Thermal Pad 1.88x1.68mm, IPC Medium Density)
footprint LT-MS8E-8-1880X1680TP_L (SOP, 8-Leads, Body 3x3mm, Pitch 0.65mm, Thermal Pad 1.88x1.68mm, IPC High Density)
footprint LT-MS8E-8-1880X1680TP_M (SOP, 8-Leads, Body 3x3mm, Pitch 0.65mm, Thermal Pad 1.88x1.68mm, IPC Low Density)
part A pins: 1 OUT (power) "Output. The output supplies power to the load.", 2 ADJ (in) "Adjust. This is the input to the error amplifier.", 4 GND (power) "Ground.", 5 ~{SHDN} (in) "Shutdown. The output will be off when the S\H\D\N\ pin is pulled low. The S\H\D\N\ pin can be driven either by 5V logic or open-collector logic with a pull-up resistor.", 8 IN (power) "Input. Power is supplied to the device through the IN pin. A bypass capacitor is required on this pin if the device is more than six inches away from the main input filter capacitor. In general, the output impedance of a (See Datasheet)", 9 EP (power) "Ground."
part B pins: 3 NC, 6 NC, 7 NC

## LT3010EMS8E-5
designator U?
50 mA, Low Dropout Micropower Linear Regulator, 3 to 80 V Vin, 5 V Vout, 8-pin SOP (MS8E-8), -40 to 125 degC; Manufacturer: Linear Technology; PartNumber: LT3010EMS8E-5; Discrete Pass Element: no; Dropout Voltage(V): 0.3; Iout(mA): 50; Isupply(mA): 0.03; Noise(uV): 100; Number of Outputs: 1; Output Voltage: 5; PSRR(dB): 68; Vin Max(V): 80; Vin Min(V): 3; DatasheetVersion: Rev. E; PackageVersion: Rev. F; PackageReference: MS8E-8; PackageDescription: 8-Pin Plastic MSOP, Exposed Die Pad, Body 3 x 3 mm, Pitch 0.65 mm; Supplier 1: Digi-Key; Supplier Part Number 1: LT3010EMS8E-5-ND; Supplier 2: Newark; Supplier Part Number 2: 57M7839; RoHS: FALSE; Shutdown Current(uA): 1; Mounting Technology: Surface Mount; ComponentLink1Description: Manufacturer URL; ComponentLink1URL: http://www.linear.com/; ComponentLink2Description: Datasheet; ComponentLink2URL: http://cds.linear.com/docs/en/datasheet/30105fe.pdf; ComponentLink3Description: Package Specification; ComponentLink3URL: http://cds.linear.com/docs/en/datasheet/3080fc.pdf
footprint LT-MS8E-8-1880X1680TP_N (SOP, 8-Leads, Body 3x3mm, Pitch 0.65mm, Thermal Pad 1.88x1.68mm, IPC Medium Density)
footprint LT-MS8E-8-1880X1680TP_L (SOP, 8-Leads, Body 3x3mm, Pitch 0.65mm, Thermal Pad 1.88x1.68mm, IPC High Density)
footprint LT-MS8E-8-1880X1680TP_M (SOP, 8-Leads, Body 3x3mm, Pitch 0.65mm, Thermal Pad 1.88x1.68mm, IPC Low Density)
part A pins: 1 OUT (power) "Output. The output supplies power to the load. A minimum output capacitor of 1uF is required to prevent oscillations. Larger output capacitors will be required for applications with large transient loads to limit peak (See Datasheet)", 2 SENSE (in) "Sense. For the LT3010-5, the SENSE pin is the input to the error amplifier. Optimum regulation will be obtained at the point where the SENSE pin is connected to the OUT pin of the regulator. In critical applications, small (See Datasheet)", 4 GND (power) "Ground. The exposed backside (pin 9) of the package is an electrical connection for GND. As such, to ensure optimum device operation, pin 9 must be connected directly to pin 4 on the PC board.", 5 ~{SHDN} (in) "Shutdown. The S\H\D\N\ pin is used to put the LT3010 into a low power shutdown state. The output will be off when the S\H\D\N\ pin is pulled low. The S\H\D\N\ pin can be driven either by 5V logic or open-collector logic with (See Datasheet)", 8 IN (power) "Input. Power is supplied to the device through the IN pin. A bypass capacitor is required on this pin if the device is more than six inches away from the main input filter capacitor. In general, the output impedance of a (See Datasheet)", 9 EP (power) "Ground. The exposed backside (pin 9) of the package is an electrical connection for GND. As such, to ensure optimum device operation, pin 9 must be connected directly to pin 4 on the PC board."
part B pins: 3 NC "No Connection. May be floated, tied to IN or tied to GND.", 6 NC "No Connection. May be floated, tied to IN or tied to GND.", 7 NC "No Connection. May be floated, tied to IN or tied to GND."

## LT3010EMS8E-5#PBF
designator U?
50 mA, Low Dropout Micropower Linear Regulator, 3 to 80 V Vin, 5 V Vout, 8-pin SOP (MS8E-8), -40 to 125 degC, Pb-Free; Manufacturer: Linear Technology; PartNumber: LT3010EMS8E-5#PBF; Discrete Pass Element: no; Dropout Voltage(V): 0.3; Iout(mA): 50; Isupply(mA): 0.03; Noise(uV): 100; Number of Outputs: 1; Output Voltage: 5; PSRR(dB): 68; Vin Max(V): 80; Vin Min(V): 3; DatasheetVersion: Rev. E; PackageVersion: Rev. F; PackageReference: MS8E-8; PackageDescription: 8-Pin Plastic MSOP, Exposed Die Pad, Body 3 x 3 mm, Pitch 0.65 mm; Supplier 1: Digi-Key; Supplier Part Number 1: LT3010EMS8E-5#PBF-ND; Supplier 2: Farnell; Supplier Part Number 2: 1663542; Supplier 3: Newark; Supplier Part Number 3: 57M7840; RoHS: TRUE; Shutdown Current(uA): 1; Mounting Technology: Surface Mount; ComponentLink1Description: Manufacturer URL; ComponentLink1URL: http://www.linear.com/; ComponentLink2Description: Datasheet; ComponentLink2URL: http://cds.linear.com/docs/en/datasheet/30105fe.pdf; ComponentLink3Description: Package Specification; ComponentLink3URL: http://cds.linear.com/docs/en/datasheet/3080fc.pdf
footprint LT-MS8E-8-1880X1680TP_N (SOP, 8-Leads, Body 3x3mm, Pitch 0.65mm, Thermal Pad 1.88x1.68mm, IPC Medium Density)
footprint LT-MS8E-8-1880X1680TP_L (SOP, 8-Leads, Body 3x3mm, Pitch 0.65mm, Thermal Pad 1.88x1.68mm, IPC High Density)
footprint LT-MS8E-8-1880X1680TP_M (SOP, 8-Leads, Body 3x3mm, Pitch 0.65mm, Thermal Pad 1.88x1.68mm, IPC Low Density)
part A pins: 1 OUT (power) "Output. The output supplies power to the load. A minimum output capacitor of 1uF is required to prevent oscillations. Larger output capacitors will be required for applications with large transient loads to limit peak (See Datasheet)", 2 SENSE (in) "Sense. For the LT3010-5, the SENSE pin is the input to the error amplifier. Optimum regulation will be obtained at the point where the SENSE pin is connected to the OUT pin of the regulator. In critical applications, small (See Datasheet)", 4 GND (power) "Ground. The exposed backside (pin 9) of the package is an electrical connection for GND. As such, to ensure optimum device operation, pin 9 must be connected directly to pin 4 on the PC board.", 5 ~{SHDN} (in) "Shutdown. The S\H\D\N\ pin is used to put the LT3010 into a low power shutdown state. The output will be off when the S\H\D\N\ pin is pulled low. The S\H\D\N\ pin can be driven either by 5V logic or open-collector logic with (See Datasheet)", 8 IN (power) "Input. Power is supplied to the device through the IN pin. A bypass capacitor is required on this pin if the device is more than six inches away from the main input filter capacitor. In general, the output impedance of a (See Datasheet)", 9 EP (power) "Ground. The exposed backside (pin 9) of the package is an electrical connection for GND. As such, to ensure optimum device operation, pin 9 must be connected directly to pin 4 on the PC board."
part B pins: 3 NC "No Connection. May be floated, tied to IN or tied to GND.", 6 NC "No Connection. May be floated, tied to IN or tied to GND.", 7 NC "No Connection. May be floated, tied to IN or tied to GND."

## LT3010EMS8E-5#TR
designator U?
50 mA, Low Dropout Micropower Linear Regulator, 3 to 80 V Vin, 5 V Vout, 8-pin SOP (MS8E-8), -40 to 125 degC, Tape and Reel; Manufacturer: Linear Technology; PartNumber: LT3010EMS8E-5#TR; Discrete Pass Element: no; Dropout Voltage(V): 0.3; Iout(mA): 50; Isupply(mA): 0.03; Noise(uV): 100; Number of Outputs: 1; Output Voltage: 5; PSRR(dB): 68; Vin Max(V): 80; Vin Min(V): 3; DatasheetVersion: Rev. E; PackageVersion: Rev. F; PackageReference: MS8E-8; PackageDescription: 8-Pin Plastic MSOP, Exposed Die Pad, Body 3 x 3 mm, Pitch 0.65 mm; Supplier 1: Digi-Key; Supplier Part Number 1: LT3010EMS8E-5#TR-ND; Supplier 2: Newark; Supplier Part Number 2: 57M7841; Packing: Tape and Reel; RoHS: FALSE; Shutdown Current(uA): 1; Mounting Technology: Surface Mount; ComponentLink1Description: Manufacturer URL; ComponentLink1URL: http://www.linear.com/; ComponentLink2Description: Datasheet; ComponentLink2URL: http://cds.linear.com/docs/en/datasheet/30105fe.pdf; ComponentLink3Description: Package Specification; ComponentLink3URL: http://cds.linear.com/docs/en/datasheet/3080fc.pdf
footprint LT-MS8E-8-1880X1680TP_N (SOP, 8-Leads, Body 3x3mm, Pitch 0.65mm, Thermal Pad 1.88x1.68mm, IPC Medium Density)
footprint LT-MS8E-8-1880X1680TP_L (SOP, 8-Leads, Body 3x3mm, Pitch 0.65mm, Thermal Pad 1.88x1.68mm, IPC High Density)
footprint LT-MS8E-8-1880X1680TP_M (SOP, 8-Leads, Body 3x3mm, Pitch 0.65mm, Thermal Pad 1.88x1.68mm, IPC Low Density)
part A pins: 1 OUT (power) "Output. The output supplies power to the load. A minimum output capacitor of 1uF is required to prevent oscillations. Larger output capacitors will be required for applications with large transient loads to limit peak (See Datasheet)", 2 SENSE (in) "Sense. For the LT3010-5, the SENSE pin is the input to the error amplifier. Optimum regulation will be obtained at the point where the SENSE pin is connected to the OUT pin of the regulator. In critical applications, small (See Datasheet)", 4 GND (power) "Ground. The exposed backside (pin 9) of the package is an electrical connection for GND. As such, to ensure optimum device operation, pin 9 must be connected directly to pin 4 on the PC board.", 5 ~{SHDN} (in) "Shutdown. The S\H\D\N\ pin is used to put the LT3010 into a low power shutdown state. The output will be off when the S\H\D\N\ pin is pulled low. The S\H\D\N\ pin can be driven either by 5V logic or open-collector logic with (See Datasheet)", 8 IN (power) "Input. Power is supplied to the device through the IN pin. A bypass capacitor is required on this pin if the device is more than six inches away from the main input filter capacitor. In general, the output impedance of a (See Datasheet)", 9 EP (power) "Ground. The exposed backside (pin 9) of the package is an electrical connection for GND. As such, to ensure optimum device operation, pin 9 must be connected directly to pin 4 on the PC board."
part B pins: 3 NC "No Connection. May be floated, tied to IN or tied to GND.", 6 NC "No Connection. May be floated, tied to IN or tied to GND.", 7 NC "No Connection. May be floated, tied to IN or tied to GND."